# Altium integrated library Module - LCD.IntLib: 1 symbol
Pins are listed as number, name and electrical type; pins without a type are passive.

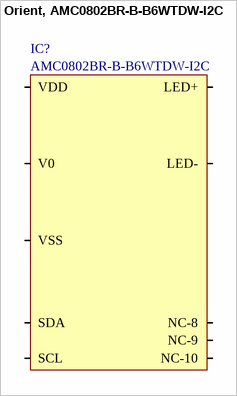
[diagram p0: symbol Orient, AMC0802BR-B-B6WTDW-I2C]

## Orient, AMC0802BR-B-B6WTDW-I2C
designator IC?  Manufacturer Part Number: AMC0802BR-B-B6WTDW-I2C  (hidden comment: *)
IC, Interface, FTDI, QFN-16; Manufacturer: Orient Display; Component Category: Module; ComponentLink1Description: Datasheet; ComponentLink1URL: E:\Altium\Datasheets\Module - LCD\Orient, AMC0802BR-B-B6WTDW-I2C.pdf; ComponentLink2Description: Supplier Link; ComponentLink2URL: https://www.digikey.com/en/products/detail/orient-display/AMC0802BR-B-B6WTDW-I2C/12089222; Supplier: Digikey; Supplier Part Number: 3444-AMC0802BR-B-B6WTDW-I2C-ND; Operating Temperature, Min: -20℃; Operating Temperature, Max: +70℃; Quantity, Min: 1; Quantity, Max: 2000; Price, Min: 8.69; Supplier Currency: $; Price, Max: 4.21208; Supplier Link: https://www.digikey.com/en/products/detail/orient-display/AMC0802BR-B-B6WTDW-I2C/12089222; Component Type: LCD; Package: Custom
footprint Orient, AMC0802BR-B-B6WTDW-I2C
pins: LED+, LED-, NC-8, NC-9, NC-10, SCL, SDA, V0, VDD, VSS